# Altium integrated library National Semiconductor Interface.IntLib: 1433 symbols (part 38 of 51)
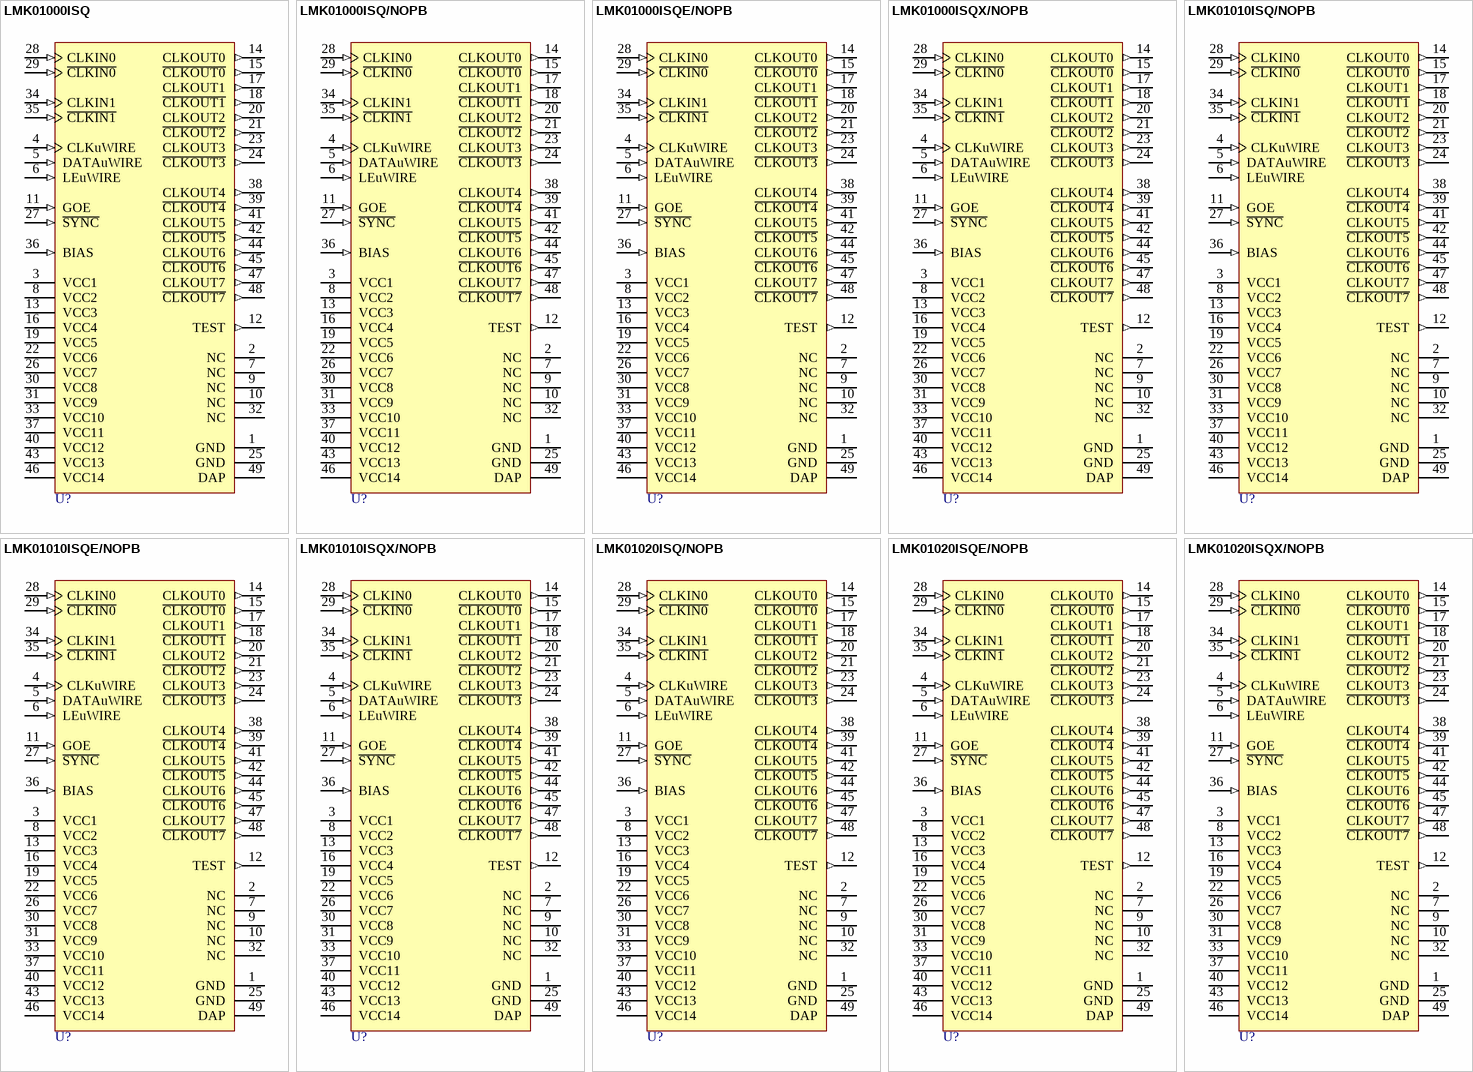
[diagram p161: symbols LMK01000ISQ to LMK01020ISQX/NOPB]

## LMK01020ISQE/NOPB
designator U?
1.6 GHz High Performance Clock Buffer, Divider, and Distributor, 48-pin LLP, Pb-Free; PartNumber: LMK01020ISQE/NOPB; Manufacturer: National Semiconductor; PackageTopMarking: NS*UZXYTTE#*K01020 I; PowerWise: N; CompType: Interface IC; High-Reliability: Y; DatasheetVersion: Jul-2009; PackageVersion: revB, May-2009; PackageReference: SQA48A; PackageDescription: LLP, Plastic, Quad, 7 x 7 x 0.8mm Body, 48 Lead, 0.5mm Pitch, No Pullback; RoHS: Y; PinCount: 48; Code_JEDEC: MO-220-WKKD-2; ComponentLink1Description: Manufacturer URL; ComponentLink1URL: http://www.national.com/; ComponentLink2Description: LMK01020 Datasheet; ComponentLink2URL: http://www.national.com/ds/LM/LMK01020.pdf; ComponentLink3Description: LMK01020 Web Page; ComponentLink3URL: http://www.national.com/pf/LM/LMK01020.html; ComponentLink4Description: SQA48A Package Page; ComponentLink4URL: http://www.national.com/packaging/folders/sqa48a.html
footprint SQA48A (QFN, 48-Leads, Body 7x7mm, Pitch 0.5mm, Thermal Pad 5.2x5.2mm, NSC Recommended)
pins: 1 GND (power), 2 NC, 3 VCC1 (power), 4 CLKuWIRE (in), 5 DATAuWIRE (in), 6 LEuWIRE (in), 7 NC, 8 VCC2 (power), 9 NC, 10 NC, 11 GOE (in), 12 TEST (out), 13 VCC3 (power), 14 CLKOUT0 (out), 15 ~{CLKOUT0} (out), 16 VCC4 (power), 17 CLKOUT1 (out), 18 ~{CLKOUT1} (out), 19 VCC5 (power), 20 CLKOUT2 (out), 21 ~{CLKOUT2} (out), 22 VCC6 (power), 23 CLKOUT3 (out), 24 ~{CLKOUT3} (out), 25 GND (power), 26 VCC7 (power), 27 ~{SYNC} (in), 28 CLKIN0 (in), 29 ~{CLKIN0} (in), 30 VCC8 (power), 31 VCC9 (power), 32 NC, 33 VCC10 (power), 34 CLKIN1 (in), 35 ~{CLKIN1} (in), 36 BIAS (in), 37 VCC11 (power), 38 CLKOUT4 (out), 39 ~{CLKOUT4} (out), 40 VCC12 (power), 41 CLKOUT5 (out), 42 ~{CLKOUT5} (out), 43 VCC13 (power), 44 CLKOUT6 (out), 45 ~{CLKOUT6} (out), 46 VCC14 (power), 47 CLKOUT7 (out), 48 ~{CLKOUT7} (out), 49 DAP (power)

## LMK01020ISQX/NOPB
designator U?
1.6 GHz High Performance Clock Buffer, Divider, and Distributor, 48-pin LLP, Pb-Free; PartNumber: LMK01020ISQX/NOPB; Manufacturer: National Semiconductor; PackageTopMarking: NS*UZXYTTE#*K01020 I; PowerWise: N; CompType: Interface IC; High-Reliability: Y; DatasheetVersion: Jul-2009; PackageVersion: revB, May-2009; PackageReference: SQA48A; PackageDescription: LLP, Plastic, Quad, 7 x 7 x 0.8mm Body, 48 Lead, 0.5mm Pitch, No Pullback; RoHS: Y; PinCount: 48; Code_JEDEC: MO-220-WKKD-2; ComponentLink1Description: Manufacturer URL; ComponentLink1URL: http://www.national.com/; ComponentLink2Description: LMK01020 Datasheet; ComponentLink2URL: http://www.national.com/ds/LM/LMK01020.pdf; ComponentLink3Description: LMK01020 Web Page; ComponentLink3URL: http://www.national.com/pf/LM/LMK01020.html; ComponentLink4Description: SQA48A Package Page; ComponentLink4URL: http://www.national.com/packaging/folders/sqa48a.html
footprint SQA48A (QFN, 48-Leads, Body 7x7mm, Pitch 0.5mm, Thermal Pad 5.2x5.2mm, NSC Recommended)
pins: 1 GND (power), 2 NC, 3 VCC1 (power), 4 CLKuWIRE (in), 5 DATAuWIRE (in), 6 LEuWIRE (in), 7 NC, 8 VCC2 (power), 9 NC, 10 NC, 11 GOE (in), 12 TEST (out), 13 VCC3 (power), 14 CLKOUT0 (out), 15 ~{CLKOUT0} (out), 16 VCC4 (power), 17 CLKOUT1 (out), 18 ~{CLKOUT1} (out), 19 VCC5 (power), 20 CLKOUT2 (out), 21 ~{CLKOUT2} (out), 22 VCC6 (power), 23 CLKOUT3 (out), 24 ~{CLKOUT3} (out), 25 GND (power), 26 VCC7 (power), 27 ~{SYNC} (in), 28 CLKIN0 (in), 29 ~{CLKIN0} (in), 30 VCC8 (power), 31 VCC9 (power), 32 NC, 33 VCC10 (power), 34 CLKIN1 (in), 35 ~{CLKIN1} (in), 36 BIAS (in), 37 VCC11 (power), 38 CLKOUT4 (out), 39 ~{CLKOUT4} (out), 40 VCC12 (power), 41 CLKOUT5 (out), 42 ~{CLKOUT5} (out), 43 VCC13 (power), 44 CLKOUT6 (out), 45 ~{CLKOUT6} (out), 46 VCC14 (power), 47 CLKOUT7 (out), 48 ~{CLKOUT7} (out), 49 DAP (power)

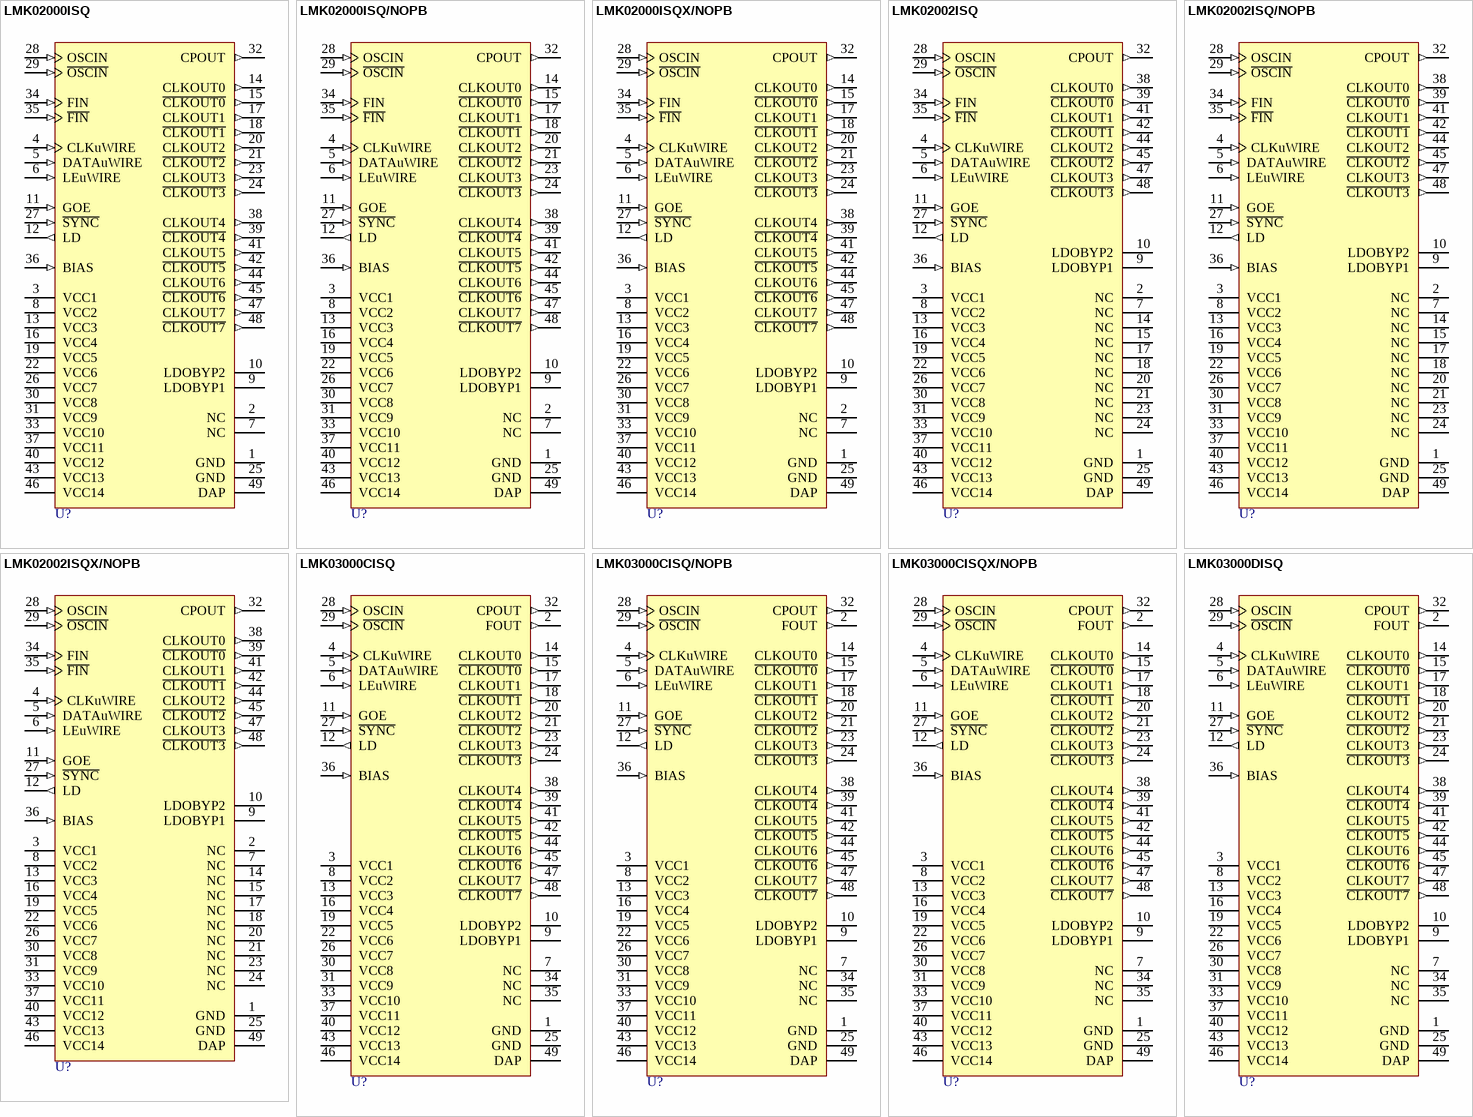
[diagram p93: symbols LMK02000ISQ to LMK03000DISQ]

## LMK02000ISQ
designator U?
Precision Clock Distributor with Integrated PLL, 48-pin LLP; PartNumber: LMK02000ISQ; Manufacturer: National Semiconductor; PackageTopMarking: NS*UZXYTT*K02000 I; PowerWise: Y; CompType: Interface IC; DatasheetVersion: Sep-2007; PackageVersion: revB, May-2009; PackageReference: SQA48A; PackageDescription: LLP, Plastic, Quad, 7 x 7 x 0.8mm Body, 48 Lead, 0.5mm Pitch, No Pullback; RoHS: Y; PinCount: 48; High-Reliability: Y; Code_JEDEC: MO-220-WKKD-2; ComponentLink1Description: Manufacturer URL; ComponentLink1URL: http://www.national.com/; ComponentLink2Description: LMK02000 Datasheet; ComponentLink2URL: http://www.national.com/ds/LM/LMK02000.pdf; ComponentLink3Description: LMK02000 Web Page; ComponentLink3URL: http://www.national.com/pf/LM/LMK02000.html; ComponentLink4Description: SQA48A Package Page; ComponentLink4URL: http://www.national.com/packaging/folders/sqa48a.html
footprint SQA48A (QFN, 48-Leads, Body 7x7mm, Pitch 0.5mm, Thermal Pad 5.2x5.2mm, NSC Recommended)
pins: 1 GND (power), 2 NC, 3 VCC1 (power), 4 CLKuWIRE (in), 5 DATAuWIRE (in), 6 LEuWIRE (in), 7 NC, 8 VCC2 (power), 9 LDOBYP1, 10 LDOBYP2, 11 GOE (in), 12 LD (out), 13 VCC3 (power), 14 CLKOUT0 (out), 15 ~{CLKOUT0} (out), 16 VCC4 (power), 17 CLKOUT1 (out), 18 ~{CLKOUT1} (out), 19 VCC5 (power), 20 CLKOUT2 (out), 21 ~{CLKOUT2} (out), 22 VCC6 (power), 23 CLKOUT3 (out), 24 ~{CLKOUT3} (out), 25 GND (power), 26 VCC7 (power), 27 ~{SYNC} (in), 28 OSCIN (in), 29 ~{OSCIN} (in), 30 VCC8 (power), 31 VCC9 (power), 32 CPOUT (out), 33 VCC10 (power), 34 FIN (in), 35 ~{FIN} (in), 36 BIAS (in), 37 VCC11 (power), 38 CLKOUT4 (out), 39 ~{CLKOUT4} (out), 40 VCC12 (power), 41 CLKOUT5 (out), 42 ~{CLKOUT5} (out), 43 VCC13 (power), 44 CLKOUT6 (out), 45 ~{CLKOUT6} (out), 46 VCC14 (power), 47 CLKOUT7 (out), 48 ~{CLKOUT7} (out), 49 DAP (power)

## LMK02000ISQ/NOPB
designator U?
Precision Clock Distributor with Integrated PLL, 48-pin LLP, Pb-Free; PartNumber: LMK02000ISQ/NOPB; Manufacturer: National Semiconductor; PackageTopMarking: NS*UZXYTTE#*K02000 I; PowerWise: Y; CompType: Interface IC; DatasheetVersion: Sep-2007; PackageVersion: revB, May-2009; PackageReference: SQA48A; PackageDescription: LLP, Plastic, Quad, 7 x 7 x 0.8mm Body, 48 Lead, 0.5mm Pitch, No Pullback; RoHS: Y; PinCount: 48; High-Reliability: Y; Code_JEDEC: MO-220-WKKD-2; ComponentLink1Description: Manufacturer URL; ComponentLink1URL: http://www.national.com/; ComponentLink2Description: LMK02000 Datasheet; ComponentLink2URL: http://www.national.com/ds/LM/LMK02000.pdf; ComponentLink3Description: LMK02000 Web Page; ComponentLink3URL: http://www.national.com/pf/LM/LMK02000.html; ComponentLink4Description: SQA48A Package Page; ComponentLink4URL: http://www.national.com/packaging/folders/sqa48a.html
footprint SQA48A (QFN, 48-Leads, Body 7x7mm, Pitch 0.5mm, Thermal Pad 5.2x5.2mm, NSC Recommended)
pins: 1 GND (power), 2 NC, 3 VCC1 (power), 4 CLKuWIRE (in), 5 DATAuWIRE (in), 6 LEuWIRE (in), 7 NC, 8 VCC2 (power), 9 LDOBYP1, 10 LDOBYP2, 11 GOE (in), 12 LD (out), 13 VCC3 (power), 14 CLKOUT0 (out), 15 ~{CLKOUT0} (out), 16 VCC4 (power), 17 CLKOUT1 (out), 18 ~{CLKOUT1} (out), 19 VCC5 (power), 20 CLKOUT2 (out), 21 ~{CLKOUT2} (out), 22 VCC6 (power), 23 CLKOUT3 (out), 24 ~{CLKOUT3} (out), 25 GND (power), 26 VCC7 (power), 27 ~{SYNC} (in), 28 OSCIN (in), 29 ~{OSCIN} (in), 30 VCC8 (power), 31 VCC9 (power), 32 CPOUT (out), 33 VCC10 (power), 34 FIN (in), 35 ~{FIN} (in), 36 BIAS (in), 37 VCC11 (power), 38 CLKOUT4 (out), 39 ~{CLKOUT4} (out), 40 VCC12 (power), 41 CLKOUT5 (out), 42 ~{CLKOUT5} (out), 43 VCC13 (power), 44 CLKOUT6 (out), 45 ~{CLKOUT6} (out), 46 VCC14 (power), 47 CLKOUT7 (out), 48 ~{CLKOUT7} (out), 49 DAP (power)

## LMK02000ISQX/NOPB
designator U?
Precision Clock Distributor with Integrated PLL, 48-pin LLP, Pb-Free; PartNumber: LMK02000ISQX/NOPB; Manufacturer: National Semiconductor; PackageTopMarking: NS*UZXYTTE#*K02000 I; PowerWise: Y; CompType: Interface IC; DatasheetVersion: Sep-2007; PackageVersion: revB, May-2009; PackageReference: SQA48A; PackageDescription: LLP, Plastic, Quad, 7 x 7 x 0.8mm Body, 48 Lead, 0.5mm Pitch, No Pullback; RoHS: Y; PinCount: 48; High-Reliability: Y; Code_JEDEC: MO-220-WKKD-2; ComponentLink1Description: Manufacturer URL; ComponentLink1URL: http://www.national.com/; ComponentLink2Description: LMK02000 Datasheet; ComponentLink2URL: http://www.national.com/ds/LM/LMK02000.pdf; ComponentLink3Description: LMK02000 Web Page; ComponentLink3URL: http://www.national.com/pf/LM/LMK02000.html; ComponentLink4Description: SQA48A Package Page; ComponentLink4URL: http://www.national.com/packaging/folders/sqa48a.html
footprint SQA48A (QFN, 48-Leads, Body 7x7mm, Pitch 0.5mm, Thermal Pad 5.2x5.2mm, NSC Recommended)
pins: 1 GND (power), 2 NC, 3 VCC1 (power), 4 CLKuWIRE (in), 5 DATAuWIRE (in), 6 LEuWIRE (in), 7 NC, 8 VCC2 (power), 9 LDOBYP1, 10 LDOBYP2, 11 GOE (in), 12 LD (out), 13 VCC3 (power), 14 CLKOUT0 (out), 15 ~{CLKOUT0} (out), 16 VCC4 (power), 17 CLKOUT1 (out), 18 ~{CLKOUT1} (out), 19 VCC5 (power), 20 CLKOUT2 (out), 21 ~{CLKOUT2} (out), 22 VCC6 (power), 23 CLKOUT3 (out), 24 ~{CLKOUT3} (out), 25 GND (power), 26 VCC7 (power), 27 ~{SYNC} (in), 28 OSCIN (in), 29 ~{OSCIN} (in), 30 VCC8 (power), 31 VCC9 (power), 32 CPOUT (out), 33 VCC10 (power), 34 FIN (in), 35 ~{FIN} (in), 36 BIAS (in), 37 VCC11 (power), 38 CLKOUT4 (out), 39 ~{CLKOUT4} (out), 40 VCC12 (power), 41 CLKOUT5 (out), 42 ~{CLKOUT5} (out), 43 VCC13 (power), 44 CLKOUT6 (out), 45 ~{CLKOUT6} (out), 46 VCC14 (power), 47 CLKOUT7 (out), 48 ~{CLKOUT7} (out), 49 DAP (power)

## LMK02002ISQ
designator U?
Precision Clock Distributor with Integrated PLL, 48-pin LLP; PartNumber: LMK02002ISQ; Manufacturer: National Semiconductor; PackageTopMarking: NS*UZXYTT*K02002 I; PowerWise: Y; CompType: Interface IC; DatasheetVersion: Aug-2007; PackageVersion: revB, May-2009; PackageReference: SQA48A; PackageDescription: LLP, Plastic, Quad, 7 x 7 x 0.8mm Body, 48 Lead, 0.5mm Pitch, No Pullback; RoHS: Y; PinCount: 48; High-Reliability: Y; Code_JEDEC: MO-220-WKKD-2; ComponentLink1Description: Manufacturer URL; ComponentLink1URL: http://www.national.com/; ComponentLink2Description: LMK02002 Datasheet; ComponentLink2URL: http://www.national.com/ds/LM/LMK02002.pdf; ComponentLink3Description: LMK02002 Web Page; ComponentLink3URL: http://www.national.com/pf/LM/LMK02002.html; ComponentLink4Description: SQA48A Package Page; ComponentLink4URL: http://www.national.com/packaging/folders/sqa48a.html
footprint SQA48A (QFN, 48-Leads, Body 7x7mm, Pitch 0.5mm, Thermal Pad 5.2x5.2mm, NSC Recommended)
pins: 1 GND (power), 2 NC, 3 VCC1 (power), 4 CLKuWIRE (in), 5 DATAuWIRE (in), 6 LEuWIRE (in), 7 NC, 8 VCC2 (power), 9 LDOBYP1, 10 LDOBYP2, 11 GOE (in), 12 LD (out), 13 VCC3 (power), 14 NC, 15 NC, 16 VCC4 (power), 17 NC, 18 NC, 19 VCC5 (power), 20 NC, 21 NC, 22 VCC6 (power), 23 NC, 24 NC, 25 GND (power), 26 VCC7 (power), 27 ~{SYNC} (in), 28 OSCIN (in), 29 ~{OSCIN} (in), 30 VCC8 (power), 31 VCC9 (power), 32 CPOUT (out), 33 VCC10 (power), 34 FIN (in), 35 ~{FIN} (in), 36 BIAS (in), 37 VCC11 (power), 38 CLKOUT0 (out), 39 ~{CLKOUT0} (out), 40 VCC12 (power), 41 CLKOUT1 (out), 42 ~{CLKOUT1} (out), 43 VCC13 (power), 44 CLKOUT2 (out), 45 ~{CLKOUT2} (out), 46 VCC14 (power), 47 CLKOUT3 (out), 48 ~{CLKOUT3} (out), 49 DAP (power)

## LMK02002ISQ/NOPB
designator U?
Precision Clock Distributor with Integrated PLL, 48-pin LLP, Pb-Free; PartNumber: LMK02002ISQ/NOPB; Manufacturer: National Semiconductor; PackageTopMarking: NS*UZXYTTE#*K02002 I; PowerWise: Y; CompType: Interface IC; DatasheetVersion: Aug-2007; PackageVersion: revB, May-2009; PackageReference: SQA48A; PackageDescription: LLP, Plastic, Quad, 7 x 7 x 0.8mm Body, 48 Lead, 0.5mm Pitch, No Pullback; RoHS: Y; PinCount: 48; High-Reliability: Y; Code_JEDEC: MO-220-WKKD-2; ComponentLink1Description: Manufacturer URL; ComponentLink1URL: http://www.national.com/; ComponentLink2Description: LMK02002 Datasheet; ComponentLink2URL: http://www.national.com/ds/LM/LMK02002.pdf; ComponentLink3Description: LMK02002 Web Page; ComponentLink3URL: http://www.national.com/pf/LM/LMK02002.html; ComponentLink4Description: SQA48A Package Page; ComponentLink4URL: http://www.national.com/packaging/folders/sqa48a.html
footprint SQA48A (QFN, 48-Leads, Body 7x7mm, Pitch 0.5mm, Thermal Pad 5.2x5.2mm, NSC Recommended)
pins: 1 GND (power), 2 NC, 3 VCC1 (power), 4 CLKuWIRE (in), 5 DATAuWIRE (in), 6 LEuWIRE (in), 7 NC, 8 VCC2 (power), 9 LDOBYP1, 10 LDOBYP2, 11 GOE (in), 12 LD (out), 13 VCC3 (power), 14 NC, 15 NC, 16 VCC4 (power), 17 NC, 18 NC, 19 VCC5 (power), 20 NC, 21 NC, 22 VCC6 (power), 23 NC, 24 NC, 25 GND (power), 26 VCC7 (power), 27 ~{SYNC} (in), 28 OSCIN (in), 29 ~{OSCIN} (in), 30 VCC8 (power), 31 VCC9 (power), 32 CPOUT (out), 33 VCC10 (power), 34 FIN (in), 35 ~{FIN} (in), 36 BIAS (in), 37 VCC11 (power), 38 CLKOUT0 (out), 39 ~{CLKOUT0} (out), 40 VCC12 (power), 41 CLKOUT1 (out), 42 ~{CLKOUT1} (out), 43 VCC13 (power), 44 CLKOUT2 (out), 45 ~{CLKOUT2} (out), 46 VCC14 (power), 47 CLKOUT3 (out), 48 ~{CLKOUT3} (out), 49 DAP (power)

## LMK02002ISQX/NOPB
designator U?
Precision Clock Distributor with Integrated PLL, 48-pin LLP, Pb-Free; PartNumber: LMK02002ISQX/NOPB; Manufacturer: National Semiconductor; PackageTopMarking: NS*UZXYTTE#*K02002 I; PowerWise: Y; CompType: Interface IC; DatasheetVersion: Aug-2007; PackageVersion: revB, May-2009; PackageReference: SQA48A; PackageDescription: LLP, Plastic, Quad, 7 x 7 x 0.8mm Body, 48 Lead, 0.5mm Pitch, No Pullback; RoHS: Y; PinCount: 48; High-Reliability: Y; Code_JEDEC: MO-220-WKKD-2; ComponentLink1Description: Manufacturer URL; ComponentLink1URL: http://www.national.com/; ComponentLink2Description: LMK02002 Datasheet; ComponentLink2URL: http://www.national.com/ds/LM/LMK02002.pdf; ComponentLink3Description: LMK02002 Web Page; ComponentLink3URL: http://www.national.com/pf/LM/LMK02002.html; ComponentLink4Description: SQA48A Package Page; ComponentLink4URL: http://www.national.com/packaging/folders/sqa48a.html
footprint SQA48A (QFN, 48-Leads, Body 7x7mm, Pitch 0.5mm, Thermal Pad 5.2x5.2mm, NSC Recommended)
pins: 1 GND (power), 2 NC, 3 VCC1 (power), 4 CLKuWIRE (in), 5 DATAuWIRE (in), 6 LEuWIRE (in), 7 NC, 8 VCC2 (power), 9 LDOBYP1, 10 LDOBYP2, 11 GOE (in), 12 LD (out), 13 VCC3 (power), 14 NC, 15 NC, 16 VCC4 (power), 17 NC, 18 NC, 19 VCC5 (power), 20 NC, 21 NC, 22 VCC6 (power), 23 NC, 24 NC, 25 GND (power), 26 VCC7 (power), 27 ~{SYNC} (in), 28 OSCIN (in), 29 ~{OSCIN} (in), 30 VCC8 (power), 31 VCC9 (power), 32 CPOUT (out), 33 VCC10 (power), 34 FIN (in), 35 ~{FIN} (in), 36 BIAS (in), 37 VCC11 (power), 38 CLKOUT0 (out), 39 ~{CLKOUT0} (out), 40 VCC12 (power), 41 CLKOUT1 (out), 42 ~{CLKOUT1} (out), 43 VCC13 (power), 44 CLKOUT2 (out), 45 ~{CLKOUT2} (out), 46 VCC14 (power), 47 CLKOUT3 (out), 48 ~{CLKOUT3} (out), 49 DAP (power)

## LMK03000CISQ
designator U?
Precision Clock Conditioner with Integrated VCO, 48-pin LLP; PartNumber: LMK03000CISQ; Manufacturer: National Semiconductor; PackageTopMarking: NS*UZXYTT*K03000CI; PowerWise: Y; CompType: Interface IC; DatasheetVersion: Jul-2009; PackageVersion: revB, May-2009; PackageReference: SQA48A; PackageDescription: LLP, Plastic, Quad, 7 x 7 x 0.8mm Body, 48 Lead, 0.5mm Pitch, No Pullback; RoHS: Y; PinCount: 48; High-Reliability: Y; Code_JEDEC: MO-220-WKKD-2; ComponentLink1Description: Manufacturer URL; ComponentLink1URL: http://www.national.com/; ComponentLink2Description: LMK03000C Datasheet; ComponentLink2URL: http://www.national.com/ds/LM/LMK03000.pdf; ComponentLink3Description: LMK03000C Web Page; ComponentLink3URL: http://www.national.com/pf/LM/LMK03000C.html; ComponentLink4Description: SQA48A Package Page; ComponentLink4URL: http://www.national.com/packaging/folders/sqa48a.html
footprint SQA48A (QFN, 48-Leads, Body 7x7mm, Pitch 0.5mm, Thermal Pad 5.2x5.2mm, NSC Recommended)
pins: 1 GND (power), 2 FOUT (out), 3 VCC1 (power), 4 CLKuWIRE (in), 5 DATAuWIRE (in), 6 LEuWIRE (in), 7 NC, 8 VCC2 (power), 9 LDOBYP1, 10 LDOBYP2, 11 GOE (in), 12 LD (out), 13 VCC3 (power), 14 CLKOUT0 (out), 15 ~{CLKOUT0} (out), 16 VCC4 (power), 17 CLKOUT1 (out), 18 ~{CLKOUT1} (out), 19 VCC5 (power), 20 CLKOUT2 (out), 21 ~{CLKOUT2} (out), 22 VCC6 (power), 23 CLKOUT3 (out), 24 ~{CLKOUT3} (out), 25 GND (power), 26 VCC7 (power), 27 ~{SYNC} (in), 28 OSCIN (in), 29 ~{OSCIN} (in), 30 VCC8 (power), 31 VCC9 (power), 32 CPOUT (out), 33 VCC10 (power), 34 NC, 35 NC, 36 BIAS (in), 37 VCC11 (power), 38 CLKOUT4 (out), 39 ~{CLKOUT4} (out), 40 VCC12 (power), 41 CLKOUT5 (out), 42 ~{CLKOUT5} (out), 43 VCC13 (power), 44 CLKOUT6 (out), 45 ~{CLKOUT6} (out), 46 VCC14 (power), 47 CLKOUT7 (out), 48 ~{CLKOUT7} (out), 49 DAP (power)

## LMK03000CISQ/NOPB
designator U?
Precision Clock Conditioner with Integrated VCO, 48-pin LLP, Pb-Free; PartNumber: LMK03000CISQ/NOPB; Manufacturer: National Semiconductor; PackageTopMarking: NS*UZXYTTE#*K03000CI; PowerWise: Y; CompType: Interface IC; DatasheetVersion: Jul-2009; PackageVersion: revB, May-2009; PackageReference: SQA48A; PackageDescription: LLP, Plastic, Quad, 7 x 7 x 0.8mm Body, 48 Lead, 0.5mm Pitch, No Pullback; RoHS: Y; PinCount: 48; High-Reliability: Y; Code_JEDEC: MO-220-WKKD-2; ComponentLink1Description: Manufacturer URL; ComponentLink1URL: http://www.national.com/; ComponentLink2Description: LMK03000 Datasheet; ComponentLink2URL: http://www.national.com/ds/LM/LMK03000.pdf; ComponentLink3Description: LMK03000 Web Page; ComponentLink3URL: http://www.national.com/pf/LM/LMK03000.html; ComponentLink4Description: SQA48A Package Page; ComponentLink4URL: http://www.national.com/packaging/folders/sqa48a.html
footprint SQA48A (QFN, 48-Leads, Body 7x7mm, Pitch 0.5mm, Thermal Pad 5.2x5.2mm, NSC Recommended)
pins: 1 GND (power), 2 FOUT (out), 3 VCC1 (power), 4 CLKuWIRE (in), 5 DATAuWIRE (in), 6 LEuWIRE (in), 7 NC, 8 VCC2 (power), 9 LDOBYP1, 10 LDOBYP2, 11 GOE (in), 12 LD (out), 13 VCC3 (power), 14 CLKOUT0 (out), 15 ~{CLKOUT0} (out), 16 VCC4 (power), 17 CLKOUT1 (out), 18 ~{CLKOUT1} (out), 19 VCC5 (power), 20 CLKOUT2 (out), 21 ~{CLKOUT2} (out), 22 VCC6 (power), 23 CLKOUT3 (out), 24 ~{CLKOUT3} (out), 25 GND (power), 26 VCC7 (power), 27 ~{SYNC} (in), 28 OSCIN (in), 29 ~{OSCIN} (in), 30 VCC8 (power), 31 VCC9 (power), 32 CPOUT (out), 33 VCC10 (power), 34 NC, 35 NC, 36 BIAS (in), 37 VCC11 (power), 38 CLKOUT4 (out), 39 ~{CLKOUT4} (out), 40 VCC12 (power), 41 CLKOUT5 (out), 42 ~{CLKOUT5} (out), 43 VCC13 (power), 44 CLKOUT6 (out), 45 ~{CLKOUT6} (out), 46 VCC14 (power), 47 CLKOUT7 (out), 48 ~{CLKOUT7} (out), 49 DAP (power)

## LMK03000CISQX/NOPB
designator U?
Precision Clock Conditioner with Integrated VCO, 48-pin LLP, Pb-Free; PartNumber: LMK03000CISQX/NOPB; Manufacturer: National Semiconductor; PackageTopMarking: NS*UZXYTTE#*K03000CI; PowerWise: Y; CompType: Interface IC; DatasheetVersion: Jul-2009; PackageVersion: revB, May-2009; PackageReference: SQA48A; PackageDescription: LLP, Plastic, Quad, 7 x 7 x 0.8mm Body, 48 Lead, 0.5mm Pitch, No Pullback; RoHS: Y; PinCount: 48; High-Reliability: Y; Code_JEDEC: MO-220-WKKD-2; ComponentLink1Description: Manufacturer URL; ComponentLink1URL: http://www.national.com/; ComponentLink2Description: LMK03000 Datasheet; ComponentLink2URL: http://www.national.com/ds/LM/LMK03000.pdf; ComponentLink3Description: LMK03000 Web Page; ComponentLink3URL: http://www.national.com/pf/LM/LMK03000.html; ComponentLink4Description: SQA48A Package Page; ComponentLink4URL: http://www.national.com/packaging/folders/sqa48a.html
footprint SQA48A (QFN, 48-Leads, Body 7x7mm, Pitch 0.5mm, Thermal Pad 5.2x5.2mm, NSC Recommended)
pins: 1 GND (power), 2 FOUT (out), 3 VCC1 (power), 4 CLKuWIRE (in), 5 DATAuWIRE (in), 6 LEuWIRE (in), 7 NC, 8 VCC2 (power), 9 LDOBYP1, 10 LDOBYP2, 11 GOE (in), 12 LD (out), 13 VCC3 (power), 14 CLKOUT0 (out), 15 ~{CLKOUT0} (out), 16 VCC4 (power), 17 CLKOUT1 (out), 18 ~{CLKOUT1} (out), 19 VCC5 (power), 20 CLKOUT2 (out), 21 ~{CLKOUT2} (out), 22 VCC6 (power), 23 CLKOUT3 (out), 24 ~{CLKOUT3} (out), 25 GND (power), 26 VCC7 (power), 27 ~{SYNC} (in), 28 OSCIN (in), 29 ~{OSCIN} (in), 30 VCC8 (power), 31 VCC9 (power), 32 CPOUT (out), 33 VCC10 (power), 34 NC, 35 NC, 36 BIAS (in), 37 VCC11 (power), 38 CLKOUT4 (out), 39 ~{CLKOUT4} (out), 40 VCC12 (power), 41 CLKOUT5 (out), 42 ~{CLKOUT5} (out), 43 VCC13 (power), 44 CLKOUT6 (out), 45 ~{CLKOUT6} (out), 46 VCC14 (power), 47 CLKOUT7 (out), 48 ~{CLKOUT7} (out), 49 DAP (power)

## LMK03000DISQ
designator U?
Precision Clock Conditioner with Integrated VCO, 48-pin LLP; PartNumber: LMK03000DISQ; Manufacturer: National Semiconductor; PackageTopMarking: NS*UZXYTT*K03000DI; PowerWise: N; CompType: Interface IC; High-Reliability: Y; DatasheetVersion: Jul-2009; PackageVersion: revB, May-2009; PackageReference: SQA48A; PackageDescription: LLP, Plastic, Quad, 7 x 7 x 0.8mm Body, 48 Lead, 0.5mm Pitch, No Pullback; RoHS: Y; PinCount: 48; Code_JEDEC: MO-220-WKKD-2; ComponentLink1Description: Manufacturer URL; ComponentLink1URL: http://www.national.com/; ComponentLink2Description: LMK03000 Datasheet; ComponentLink2URL: http://www.national.com/ds/LM/LMK03000.pdf; ComponentLink3Description: LMK03000 Web Page; ComponentLink3URL: http://www.national.com/pf/LM/LMK03000.html; ComponentLink4Description: SQA48A Package Page; ComponentLink4URL: http://www.national.com/packaging/folders/sqa48a.html
footprint SQA48A (QFN, 48-Leads, Body 7x7mm, Pitch 0.5mm, Thermal Pad 5.2x5.2mm, NSC Recommended)
pins: 1 GND (power), 2 FOUT (out), 3 VCC1 (power), 4 CLKuWIRE (in), 5 DATAuWIRE (in), 6 LEuWIRE (in), 7 NC, 8 VCC2 (power), 9 LDOBYP1, 10 LDOBYP2, 11 GOE (in), 12 LD (out), 13 VCC3 (power), 14 CLKOUT0 (out), 15 ~{CLKOUT0} (out), 16 VCC4 (power), 17 CLKOUT1 (out), 18 ~{CLKOUT1} (out), 19 VCC5 (power), 20 CLKOUT2 (out), 21 ~{CLKOUT2} (out), 22 VCC6 (power), 23 CLKOUT3 (out), 24 ~{CLKOUT3} (out), 25 GND (power), 26 VCC7 (power), 27 ~{SYNC} (in), 28 OSCIN (in), 29 ~{OSCIN} (in), 30 VCC8 (power), 31 VCC9 (power), 32 CPOUT (out), 33 VCC10 (power), 34 NC, 35 NC, 36 BIAS (in), 37 VCC11 (power), 38 CLKOUT4 (out), 39 ~{CLKOUT4} (out), 40 VCC12 (power), 41 CLKOUT5 (out), 42 ~{CLKOUT5} (out), 43 VCC13 (power), 44 CLKOUT6 (out), 45 ~{CLKOUT6} (out), 46 VCC14 (power), 47 CLKOUT7 (out), 48 ~{CLKOUT7} (out), 49 DAP (power)

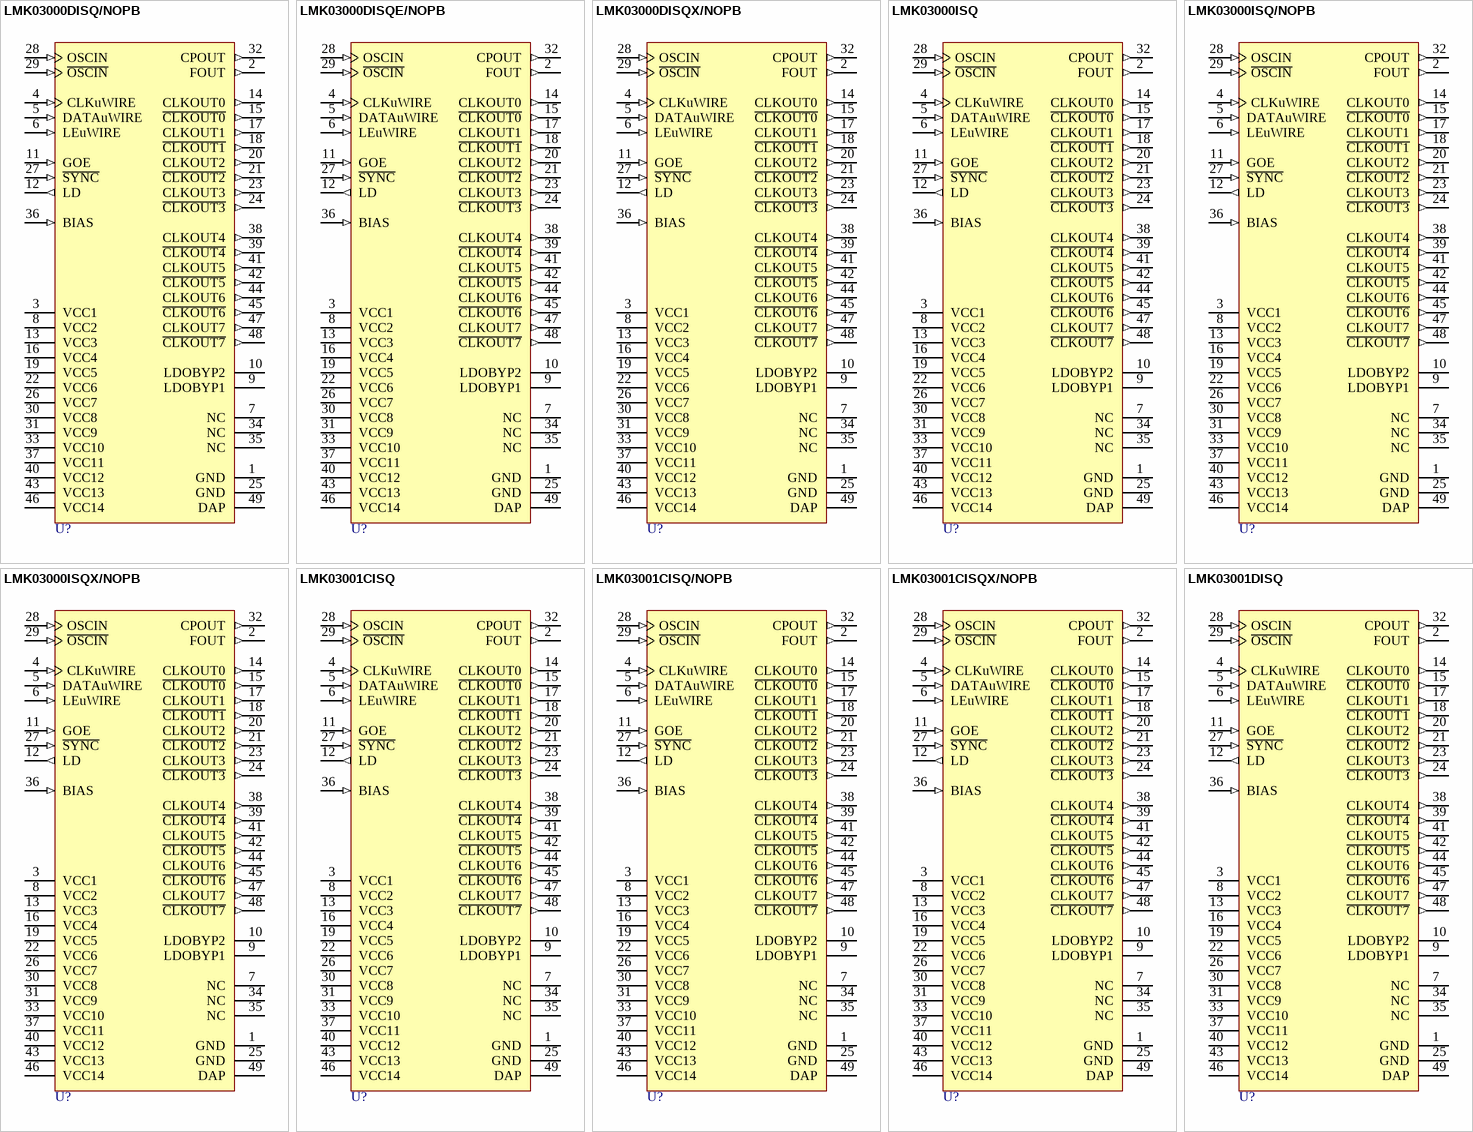
[diagram p94: symbols LMK03000DISQ/NOPB to LMK03001DISQ]

## LMK03000DISQ/NOPB
designator U?
Precision Clock Conditioner with Integrated VCO, 48-pin LLP, Pb-Free; PartNumber: LMK03000DISQ/NOPB; Manufacturer: National Semiconductor; PackageTopMarking: NS*UZXYTTE#*K03000DI; PowerWise: N; CompType: Interface IC; High-Reliability: Y; DatasheetVersion: Jul-2009; PackageVersion: revB, May-2009; PackageReference: SQA48A; PackageDescription: LLP, Plastic, Quad, 7 x 7 x 0.8mm Body, 48 Lead, 0.5mm Pitch, No Pullback; RoHS: Y; PinCount: 48; Code_JEDEC: MO-220-WKKD-2; ComponentLink1Description: Manufacturer URL; ComponentLink1URL: http://www.national.com/; ComponentLink2Description: LMK03000 Datasheet; ComponentLink2URL: http://www.national.com/ds/LM/LMK03000.pdf; ComponentLink3Description: LMK03000 Web Page; ComponentLink3URL: http://www.national.com/pf/LM/LMK03000.html; ComponentLink4Description: SQA48A Package Page; ComponentLink4URL: http://www.national.com/packaging/folders/sqa48a.html
footprint SQA48A (QFN, 48-Leads, Body 7x7mm, Pitch 0.5mm, Thermal Pad 5.2x5.2mm, NSC Recommended)
pins: 1 GND (power), 2 FOUT (out), 3 VCC1 (power), 4 CLKuWIRE (in), 5 DATAuWIRE (in), 6 LEuWIRE (in), 7 NC, 8 VCC2 (power), 9 LDOBYP1, 10 LDOBYP2, 11 GOE (in), 12 LD (out), 13 VCC3 (power), 14 CLKOUT0 (out), 15 ~{CLKOUT0} (out), 16 VCC4 (power), 17 CLKOUT1 (out), 18 ~{CLKOUT1} (out), 19 VCC5 (power), 20 CLKOUT2 (out), 21 ~{CLKOUT2} (out), 22 VCC6 (power), 23 CLKOUT3 (out), 24 ~{CLKOUT3} (out), 25 GND (power), 26 VCC7 (power), 27 ~{SYNC} (in), 28 OSCIN (in), 29 ~{OSCIN} (in), 30 VCC8 (power), 31 VCC9 (power), 32 CPOUT (out), 33 VCC10 (power), 34 NC, 35 NC, 36 BIAS (in), 37 VCC11 (power), 38 CLKOUT4 (out), 39 ~{CLKOUT4} (out), 40 VCC12 (power), 41 CLKOUT5 (out), 42 ~{CLKOUT5} (out), 43 VCC13 (power), 44 CLKOUT6 (out), 45 ~{CLKOUT6} (out), 46 VCC14 (power), 47 CLKOUT7 (out), 48 ~{CLKOUT7} (out), 49 DAP (power)

## LMK03000DISQE/NOPB
designator U?
Precision Clock Conditioner with Integrated VCO, 48-pin LLP, Pb-Free; PartNumber: LMK03000DISQE/NOPB; Manufacturer: National Semiconductor; PackageTopMarking: NS*UZXYTTE#*K03000DI; PowerWise: N; CompType: Interface IC; High-Reliability: Y; DatasheetVersion: Jul-2009; PackageVersion: revB, May-2009; PackageReference: SQA48A; PackageDescription: LLP, Plastic, Quad, 7 x 7 x 0.8mm Body, 48 Lead, 0.5mm Pitch, No Pullback; RoHS: Y; PinCount: 48; Code_JEDEC: MO-220-WKKD-2; ComponentLink1Description: Manufacturer URL; ComponentLink1URL: http://www.national.com/; ComponentLink2Description: LMK03000 Datasheet; ComponentLink2URL: http://www.national.com/ds/LM/LMK03000.pdf; ComponentLink3Description: LMK03000 Web Page; ComponentLink3URL: http://www.national.com/pf/LM/LMK03000.html; ComponentLink4Description: SQA48A Package Page; ComponentLink4URL: http://www.national.com/packaging/folders/sqa48a.html
footprint SQA48A (QFN, 48-Leads, Body 7x7mm, Pitch 0.5mm, Thermal Pad 5.2x5.2mm, NSC Recommended)
pins: 1 GND (power), 2 FOUT (out), 3 VCC1 (power), 4 CLKuWIRE (in), 5 DATAuWIRE (in), 6 LEuWIRE (in), 7 NC, 8 VCC2 (power), 9 LDOBYP1, 10 LDOBYP2, 11 GOE (in), 12 LD (out), 13 VCC3 (power), 14 CLKOUT0 (out), 15 ~{CLKOUT0} (out), 16 VCC4 (power), 17 CLKOUT1 (out), 18 ~{CLKOUT1} (out), 19 VCC5 (power), 20 CLKOUT2 (out), 21 ~{CLKOUT2} (out), 22 VCC6 (power), 23 CLKOUT3 (out), 24 ~{CLKOUT3} (out), 25 GND (power), 26 VCC7 (power), 27 ~{SYNC} (in), 28 OSCIN (in), 29 ~{OSCIN} (in), 30 VCC8 (power), 31 VCC9 (power), 32 CPOUT (out), 33 VCC10 (power), 34 NC, 35 NC, 36 BIAS (in), 37 VCC11 (power), 38 CLKOUT4 (out), 39 ~{CLKOUT4} (out), 40 VCC12 (power), 41 CLKOUT5 (out), 42 ~{CLKOUT5} (out), 43 VCC13 (power), 44 CLKOUT6 (out), 45 ~{CLKOUT6} (out), 46 VCC14 (power), 47 CLKOUT7 (out), 48 ~{CLKOUT7} (out), 49 DAP (power)

## LMK03000DISQX/NOPB
designator U?
Precision Clock Conditioner with Integrated VCO, 48-pin LLP, Pb-Free; PartNumber: LMK03000DISQX/NOPB; Manufacturer: National Semiconductor; PackageTopMarking: NS*UZXYTTE#*K03000DI; PowerWise: N; CompType: Interface IC; High-Reliability: Y; DatasheetVersion: Jul-2009; PackageVersion: revB, May-2009; PackageReference: SQA48A; PackageDescription: LLP, Plastic, Quad, 7 x 7 x 0.8mm Body, 48 Lead, 0.5mm Pitch, No Pullback; RoHS: Y; PinCount: 48; Code_JEDEC: MO-220-WKKD-2; ComponentLink1Description: Manufacturer URL; ComponentLink1URL: http://www.national.com/; ComponentLink2Description: LMK03000 Datasheet; ComponentLink2URL: http://www.national.com/ds/LM/LMK03000.pdf; ComponentLink3Description: LMK03000 Web Page; ComponentLink3URL: http://www.national.com/pf/LM/LMK03000.html; ComponentLink4Description: SQA48A Package Page; ComponentLink4URL: http://www.national.com/packaging/folders/sqa48a.html
footprint SQA48A (QFN, 48-Leads, Body 7x7mm, Pitch 0.5mm, Thermal Pad 5.2x5.2mm, NSC Recommended)
pins: 1 GND (power), 2 FOUT (out), 3 VCC1 (power), 4 CLKuWIRE (in), 5 DATAuWIRE (in), 6 LEuWIRE (in), 7 NC, 8 VCC2 (power), 9 LDOBYP1, 10 LDOBYP2, 11 GOE (in), 12 LD (out), 13 VCC3 (power), 14 CLKOUT0 (out), 15 ~{CLKOUT0} (out), 16 VCC4 (power), 17 CLKOUT1 (out), 18 ~{CLKOUT1} (out), 19 VCC5 (power), 20 CLKOUT2 (out), 21 ~{CLKOUT2} (out), 22 VCC6 (power), 23 CLKOUT3 (out), 24 ~{CLKOUT3} (out), 25 GND (power), 26 VCC7 (power), 27 ~{SYNC} (in), 28 OSCIN (in), 29 ~{OSCIN} (in), 30 VCC8 (power), 31 VCC9 (power), 32 CPOUT (out), 33 VCC10 (power), 34 NC, 35 NC, 36 BIAS (in), 37 VCC11 (power), 38 CLKOUT4 (out), 39 ~{CLKOUT4} (out), 40 VCC12 (power), 41 CLKOUT5 (out), 42 ~{CLKOUT5} (out), 43 VCC13 (power), 44 CLKOUT6 (out), 45 ~{CLKOUT6} (out), 46 VCC14 (power), 47 CLKOUT7 (out), 48 ~{CLKOUT7} (out), 49 DAP (power)

## LMK03000ISQ
designator U?
Precision Clock Conditioner with Integrated VCO, 48-pin LLP; PartNumber: LMK03000ISQ; Manufacturer: National Semiconductor; PackageTopMarking: NS*UZXYTT*K03000 I; PowerWise: Y; CompType: Interface IC; DatasheetVersion: Jul-2009; PackageVersion: revB, May-2009; PackageReference: SQA48A; PackageDescription: LLP, Plastic, Quad, 7 x 7 x 0.8mm Body, 48 Lead, 0.5mm Pitch, No Pullback; RoHS: Y; PinCount: 48; High-Reliability: Y; Code_JEDEC: MO-220-WKKD-2; ComponentLink1Description: Manufacturer URL; ComponentLink1URL: http://www.national.com/; ComponentLink2Description: LMK03000 Datasheet; ComponentLink2URL: http://www.national.com/ds/LM/LMK03000.pdf; ComponentLink3Description: LMK03000 Web Page; ComponentLink3URL: http://www.national.com/pf/LM/LMK03000.html; ComponentLink4Description: SQA48A Package Page; ComponentLink4URL: http://www.national.com/packaging/folders/sqa48a.html
footprint SQA48A (QFN, 48-Leads, Body 7x7mm, Pitch 0.5mm, Thermal Pad 5.2x5.2mm, NSC Recommended)
pins: 1 GND (power), 2 FOUT (out), 3 VCC1 (power), 4 CLKuWIRE (in), 5 DATAuWIRE (in), 6 LEuWIRE (in), 7 NC, 8 VCC2 (power), 9 LDOBYP1, 10 LDOBYP2, 11 GOE (in), 12 LD (out), 13 VCC3 (power), 14 CLKOUT0 (out), 15 ~{CLKOUT0} (out), 16 VCC4 (power), 17 CLKOUT1 (out), 18 ~{CLKOUT1} (out), 19 VCC5 (power), 20 CLKOUT2 (out), 21 ~{CLKOUT2} (out), 22 VCC6 (power), 23 CLKOUT3 (out), 24 ~{CLKOUT3} (out), 25 GND (power), 26 VCC7 (power), 27 ~{SYNC} (in), 28 OSCIN (in), 29 ~{OSCIN} (in), 30 VCC8 (power), 31 VCC9 (power), 32 CPOUT (out), 33 VCC10 (power), 34 NC, 35 NC, 36 BIAS (in), 37 VCC11 (power), 38 CLKOUT4 (out), 39 ~{CLKOUT4} (out), 40 VCC12 (power), 41 CLKOUT5 (out), 42 ~{CLKOUT5} (out), 43 VCC13 (power), 44 CLKOUT6 (out), 45 ~{CLKOUT6} (out), 46 VCC14 (power), 47 CLKOUT7 (out), 48 ~{CLKOUT7} (out), 49 DAP (power)

## LMK03000ISQ/NOPB
designator U?
Precision Clock Conditioner with Integrated VCO, 48-pin LLP, Pb-Free; PartNumber: LMK03000ISQ/NOPB; Manufacturer: National Semiconductor; PackageTopMarking: NS*UZXYTTE#*K03000 I; PowerWise: Y; CompType: Interface IC; DatasheetVersion: Jul-2009; PackageVersion: revB, May-2009; PackageReference: SQA48A; PackageDescription: LLP, Plastic, Quad, 7 x 7 x 0.8mm Body, 48 Lead, 0.5mm Pitch, No Pullback; RoHS: Y; PinCount: 48; High-Reliability: Y; Code_JEDEC: MO-220-WKKD-2; ComponentLink1Description: Manufacturer URL; ComponentLink1URL: http://www.national.com/; ComponentLink2Description: LMK03000 Datasheet; ComponentLink2URL: http://www.national.com/ds/LM/LMK03000.pdf; ComponentLink3Description: LMK03000 Web Page; ComponentLink3URL: http://www.national.com/pf/LM/LMK03000.html; ComponentLink4Description: SQA48A Package Page; ComponentLink4URL: http://www.national.com/packaging/folders/sqa48a.html
footprint SQA48A (QFN, 48-Leads, Body 7x7mm, Pitch 0.5mm, Thermal Pad 5.2x5.2mm, NSC Recommended)
pins: 1 GND (power), 2 FOUT (out), 3 VCC1 (power), 4 CLKuWIRE (in), 5 DATAuWIRE (in), 6 LEuWIRE (in), 7 NC, 8 VCC2 (power), 9 LDOBYP1, 10 LDOBYP2, 11 GOE (in), 12 LD (out), 13 VCC3 (power), 14 CLKOUT0 (out), 15 ~{CLKOUT0} (out), 16 VCC4 (power), 17 CLKOUT1 (out), 18 ~{CLKOUT1} (out), 19 VCC5 (power), 20 CLKOUT2 (out), 21 ~{CLKOUT2} (out), 22 VCC6 (power), 23 CLKOUT3 (out), 24 ~{CLKOUT3} (out), 25 GND (power), 26 VCC7 (power), 27 ~{SYNC} (in), 28 OSCIN (in), 29 ~{OSCIN} (in), 30 VCC8 (power), 31 VCC9 (power), 32 CPOUT (out), 33 VCC10 (power), 34 NC, 35 NC, 36 BIAS (in), 37 VCC11 (power), 38 CLKOUT4 (out), 39 ~{CLKOUT4} (out), 40 VCC12 (power), 41 CLKOUT5 (out), 42 ~{CLKOUT5} (out), 43 VCC13 (power), 44 CLKOUT6 (out), 45 ~{CLKOUT6} (out), 46 VCC14 (power), 47 CLKOUT7 (out), 48 ~{CLKOUT7} (out), 49 DAP (power)

## LMK03000ISQX/NOPB
designator U?
Precision Clock Conditioner with Integrated VCO, 48-pin LLP, Pb-Free; PartNumber: LMK03000ISQX/NOPB; Manufacturer: National Semiconductor; PackageTopMarking: NS*UZXYTTE#*K03000 I; PowerWise: Y; CompType: Interface IC; DatasheetVersion: Jul-2009; PackageVersion: revB, May-2009; PackageReference: SQA48A; PackageDescription: LLP, Plastic, Quad, 7 x 7 x 0.8mm Body, 48 Lead, 0.5mm Pitch, No Pullback; RoHS: Y; PinCount: 48; High-Reliability: Y; Code_JEDEC: MO-220-WKKD-2; ComponentLink1Description: Manufacturer URL; ComponentLink1URL: http://www.national.com/; ComponentLink2Description: LMK03000 Datasheet; ComponentLink2URL: http://www.national.com/ds/LM/LMK03000.pdf; ComponentLink3Description: LMK03000 Web Page; ComponentLink3URL: http://www.national.com/pf/LM/LMK03000.html; ComponentLink4Description: SQA48A Package Page; ComponentLink4URL: http://www.national.com/packaging/folders/sqa48a.html
footprint SQA48A (QFN, 48-Leads, Body 7x7mm, Pitch 0.5mm, Thermal Pad 5.2x5.2mm, NSC Recommended)
pins: 1 GND (power), 2 FOUT (out), 3 VCC1 (power), 4 CLKuWIRE (in), 5 DATAuWIRE (in), 6 LEuWIRE (in), 7 NC, 8 VCC2 (power), 9 LDOBYP1, 10 LDOBYP2, 11 GOE (in), 12 LD (out), 13 VCC3 (power), 14 CLKOUT0 (out), 15 ~{CLKOUT0} (out), 16 VCC4 (power), 17 CLKOUT1 (out), 18 ~{CLKOUT1} (out), 19 VCC5 (power), 20 CLKOUT2 (out), 21 ~{CLKOUT2} (out), 22 VCC6 (power), 23 CLKOUT3 (out), 24 ~{CLKOUT3} (out), 25 GND (power), 26 VCC7 (power), 27 ~{SYNC} (in), 28 OSCIN (in), 29 ~{OSCIN} (in), 30 VCC8 (power), 31 VCC9 (power), 32 CPOUT (out), 33 VCC10 (power), 34 NC, 35 NC, 36 BIAS (in), 37 VCC11 (power), 38 CLKOUT4 (out), 39 ~{CLKOUT4} (out), 40 VCC12 (power), 41 CLKOUT5 (out), 42 ~{CLKOUT5} (out), 43 VCC13 (power), 44 CLKOUT6 (out), 45 ~{CLKOUT6} (out), 46 VCC14 (power), 47 CLKOUT7 (out), 48 ~{CLKOUT7} (out), 49 DAP (power)

## LMK03001CISQ
designator U?
Precision Clock Conditioner with Integrated VCO, 48-pin LLP; PartNumber: LMK03001CISQ; Manufacturer: National Semiconductor; PackageTopMarking: NS*UZXYTT*K03001CI; PowerWise: Y; CompType: Interface IC; DatasheetVersion: Jul-2009; PackageVersion: revB, May-2009; PackageReference: SQA48A; PackageDescription: LLP, Plastic, Quad, 7 x 7 x 0.8mm Body, 48 Lead, 0.5mm Pitch, No Pullback; RoHS: Y; PinCount: 48; High-Reliability: Y; Code_JEDEC: MO-220-WKKD-2; ComponentLink1Description: Manufacturer URL; ComponentLink1URL: http://www.national.com/; ComponentLink2Description: LMK03001C Datasheet; ComponentLink2URL: http://www.national.com/ds/LM/LMK03000.pdf; ComponentLink3Description: LMK03001C Web Page; ComponentLink3URL: http://www.national.com/pf/LM/LMK03001C.html; ComponentLink4Description: SQA48A Package Page; ComponentLink4URL: http://www.national.com/packaging/folders/sqa48a.html
footprint SQA48A (QFN, 48-Leads, Body 7x7mm, Pitch 0.5mm, Thermal Pad 5.2x5.2mm, NSC Recommended)
pins: 1 GND (power), 2 FOUT (out), 3 VCC1 (power), 4 CLKuWIRE (in), 5 DATAuWIRE (in), 6 LEuWIRE (in), 7 NC, 8 VCC2 (power), 9 LDOBYP1, 10 LDOBYP2, 11 GOE (in), 12 LD (out), 13 VCC3 (power), 14 CLKOUT0 (out), 15 ~{CLKOUT0} (out), 16 VCC4 (power), 17 CLKOUT1 (out), 18 ~{CLKOUT1} (out), 19 VCC5 (power), 20 CLKOUT2 (out), 21 ~{CLKOUT2} (out), 22 VCC6 (power), 23 CLKOUT3 (out), 24 ~{CLKOUT3} (out), 25 GND (power), 26 VCC7 (power), 27 ~{SYNC} (in), 28 OSCIN (in), 29 ~{OSCIN} (in), 30 VCC8 (power), 31 VCC9 (power), 32 CPOUT (out), 33 VCC10 (power), 34 NC, 35 NC, 36 BIAS (in), 37 VCC11 (power), 38 CLKOUT4 (out), 39 ~{CLKOUT4} (out), 40 VCC12 (power), 41 CLKOUT5 (out), 42 ~{CLKOUT5} (out), 43 VCC13 (power), 44 CLKOUT6 (out), 45 ~{CLKOUT6} (out), 46 VCC14 (power), 47 CLKOUT7 (out), 48 ~{CLKOUT7} (out), 49 DAP (power)

## LMK03001CISQ/NOPB
designator U?
Precision Clock Conditioner with Integrated VCO, 48-pin LLP, Pb-Free; PartNumber: LMK03001CISQ/NOPB; Manufacturer: National Semiconductor; PackageTopMarking: NS*UZXYTTE#*K03001CI; PowerWise: Y; CompType: Interface IC; DatasheetVersion: Jul-2009; PackageVersion: revB, May-2009; PackageReference: SQA48A; PackageDescription: LLP, Plastic, Quad, 7 x 7 x 0.8mm Body, 48 Lead, 0.5mm Pitch, No Pullback; RoHS: Y; PinCount: 48; High-Reliability: Y; Code_JEDEC: MO-220-WKKD-2; ComponentLink1Description: Manufacturer URL; ComponentLink1URL: http://www.national.com/; ComponentLink2Description: LMK03001 Datasheet; ComponentLink2URL: http://www.national.com/ds/LM/LMK03001.pdf; ComponentLink3Description: LMK03001 Web Page; ComponentLink3URL: http://www.national.com/pf/LM/LMK03001.html; ComponentLink4Description: SQA48A Package Page; ComponentLink4URL: http://www.national.com/packaging/folders/sqa48a.html
footprint SQA48A (QFN, 48-Leads, Body 7x7mm, Pitch 0.5mm, Thermal Pad 5.2x5.2mm, NSC Recommended)
pins: 1 GND (power), 2 FOUT (out), 3 VCC1 (power), 4 CLKuWIRE (in), 5 DATAuWIRE (in), 6 LEuWIRE (in), 7 NC, 8 VCC2 (power), 9 LDOBYP1, 10 LDOBYP2, 11 GOE (in), 12 LD (out), 13 VCC3 (power), 14 CLKOUT0 (out), 15 ~{CLKOUT0} (out), 16 VCC4 (power), 17 CLKOUT1 (out), 18 ~{CLKOUT1} (out), 19 VCC5 (power), 20 CLKOUT2 (out), 21 ~{CLKOUT2} (out), 22 VCC6 (power), 23 CLKOUT3 (out), 24 ~{CLKOUT3} (out), 25 GND (power), 26 VCC7 (power), 27 ~{SYNC} (in), 28 OSCIN (in), 29 ~{OSCIN} (in), 30 VCC8 (power), 31 VCC9 (power), 32 CPOUT (out), 33 VCC10 (power), 34 NC, 35 NC, 36 BIAS (in), 37 VCC11 (power), 38 CLKOUT4 (out), 39 ~{CLKOUT4} (out), 40 VCC12 (power), 41 CLKOUT5 (out), 42 ~{CLKOUT5} (out), 43 VCC13 (power), 44 CLKOUT6 (out), 45 ~{CLKOUT6} (out), 46 VCC14 (power), 47 CLKOUT7 (out), 48 ~{CLKOUT7} (out), 49 DAP (power)

## LMK03001CISQX/NOPB
designator U?
Precision Clock Conditioner with Integrated VCO, 48-pin LLP, Pb-Free; PartNumber: LMK03001CISQX/NOPB; Manufacturer: National Semiconductor; PackageTopMarking: NS*UZXYTTE#*K03001CI; PowerWise: Y; CompType: Interface IC; DatasheetVersion: Jul-2009; PackageVersion: revB, May-2009; PackageReference: SQA48A; PackageDescription: LLP, Plastic, Quad, 7 x 7 x 0.8mm Body, 48 Lead, 0.5mm Pitch, No Pullback; RoHS: Y; PinCount: 48; High-Reliability: Y; Code_JEDEC: MO-220-WKKD-2; ComponentLink1Description: Manufacturer URL; ComponentLink1URL: http://www.national.com/; ComponentLink2Description: LMK03001 Datasheet; ComponentLink2URL: http://www.national.com/ds/LM/LMK03001.pdf; ComponentLink3Description: LMK03001 Web Page; ComponentLink3URL: http://www.national.com/pf/LM/LMK03001.html; ComponentLink4Description: SQA48A Package Page; ComponentLink4URL: http://www.national.com/packaging/folders/sqa48a.html
footprint SQA48A (QFN, 48-Leads, Body 7x7mm, Pitch 0.5mm, Thermal Pad 5.2x5.2mm, NSC Recommended)
pins: 1 GND (power), 2 FOUT (out), 3 VCC1 (power), 4 CLKuWIRE (in), 5 DATAuWIRE (in), 6 LEuWIRE (in), 7 NC, 8 VCC2 (power), 9 LDOBYP1, 10 LDOBYP2, 11 GOE (in), 12 LD (out), 13 VCC3 (power), 14 CLKOUT0 (out), 15 ~{CLKOUT0} (out), 16 VCC4 (power), 17 CLKOUT1 (out), 18 ~{CLKOUT1} (out), 19 VCC5 (power), 20 CLKOUT2 (out), 21 ~{CLKOUT2} (out), 22 VCC6 (power), 23 CLKOUT3 (out), 24 ~{CLKOUT3} (out), 25 GND (power), 26 VCC7 (power), 27 ~{SYNC} (in), 28 OSCIN (in), 29 ~{OSCIN} (in), 30 VCC8 (power), 31 VCC9 (power), 32 CPOUT (out), 33 VCC10 (power), 34 NC, 35 NC, 36 BIAS (in), 37 VCC11 (power), 38 CLKOUT4 (out), 39 ~{CLKOUT4} (out), 40 VCC12 (power), 41 CLKOUT5 (out), 42 ~{CLKOUT5} (out), 43 VCC13 (power), 44 CLKOUT6 (out), 45 ~{CLKOUT6} (out), 46 VCC14 (power), 47 CLKOUT7 (out), 48 ~{CLKOUT7} (out), 49 DAP (power)

## LMK03001DISQ
designator U?
Precision Clock Conditioner with Integrated VCO, 48-pin LLP; PartNumber: LMK03001DISQ; Manufacturer: National Semiconductor; PackageTopMarking: NS*UZXYTT*K03001DI; PowerWise: N; CompType: Interface IC; High-Reliability: Y; DatasheetVersion: Jul-2009; PackageVersion: revB, May-2009; PackageReference: SQA48A; PackageDescription: LLP, Plastic, Quad, 7 x 7 x 0.8mm Body, 48 Lead, 0.5mm Pitch, No Pullback; RoHS: Y; PinCount: 48; Code_JEDEC: MO-220-WKKD-2; ComponentLink1Description: Manufacturer URL; ComponentLink1URL: http://www.national.com/; ComponentLink2Description: LMK03001 Datasheet; ComponentLink2URL: http://www.national.com/ds/LM/LMK03000.pdf; ComponentLink3Description: LMK03001 Web Page; ComponentLink3URL: http://www.national.com/pf/LM/LMK03001.html; ComponentLink4Description: SQA48A Package Page; ComponentLink4URL: http://www.national.com/packaging/folders/sqa48a.html
footprint SQA48A (QFN, 48-Leads, Body 7x7mm, Pitch 0.5mm, Thermal Pad 5.2x5.2mm, NSC Recommended)
pins: 1 GND (power), 2 FOUT (out), 3 VCC1 (power), 4 CLKuWIRE (in), 5 DATAuWIRE (in), 6 LEuWIRE (in), 7 NC, 8 VCC2 (power), 9 LDOBYP1, 10 LDOBYP2, 11 GOE (in), 12 LD (out), 13 VCC3 (power), 14 CLKOUT0 (out), 15 ~{CLKOUT0} (out), 16 VCC4 (power), 17 CLKOUT1 (out), 18 ~{CLKOUT1} (out), 19 VCC5 (power), 20 CLKOUT2 (out), 21 ~{CLKOUT2} (out), 22 VCC6 (power), 23 CLKOUT3 (out), 24 ~{CLKOUT3} (out), 25 GND (power), 26 VCC7 (power), 27 ~{SYNC} (in), 28 OSCIN (in), 29 ~{OSCIN} (in), 30 VCC8 (power), 31 VCC9 (power), 32 CPOUT (out), 33 VCC10 (power), 34 NC, 35 NC, 36 BIAS (in), 37 VCC11 (power), 38 CLKOUT4 (out), 39 ~{CLKOUT4} (out), 40 VCC12 (power), 41 CLKOUT5 (out), 42 ~{CLKOUT5} (out), 43 VCC13 (power), 44 CLKOUT6 (out), 45 ~{CLKOUT6} (out), 46 VCC14 (power), 47 CLKOUT7 (out), 48 ~{CLKOUT7} (out), 49 DAP (power)

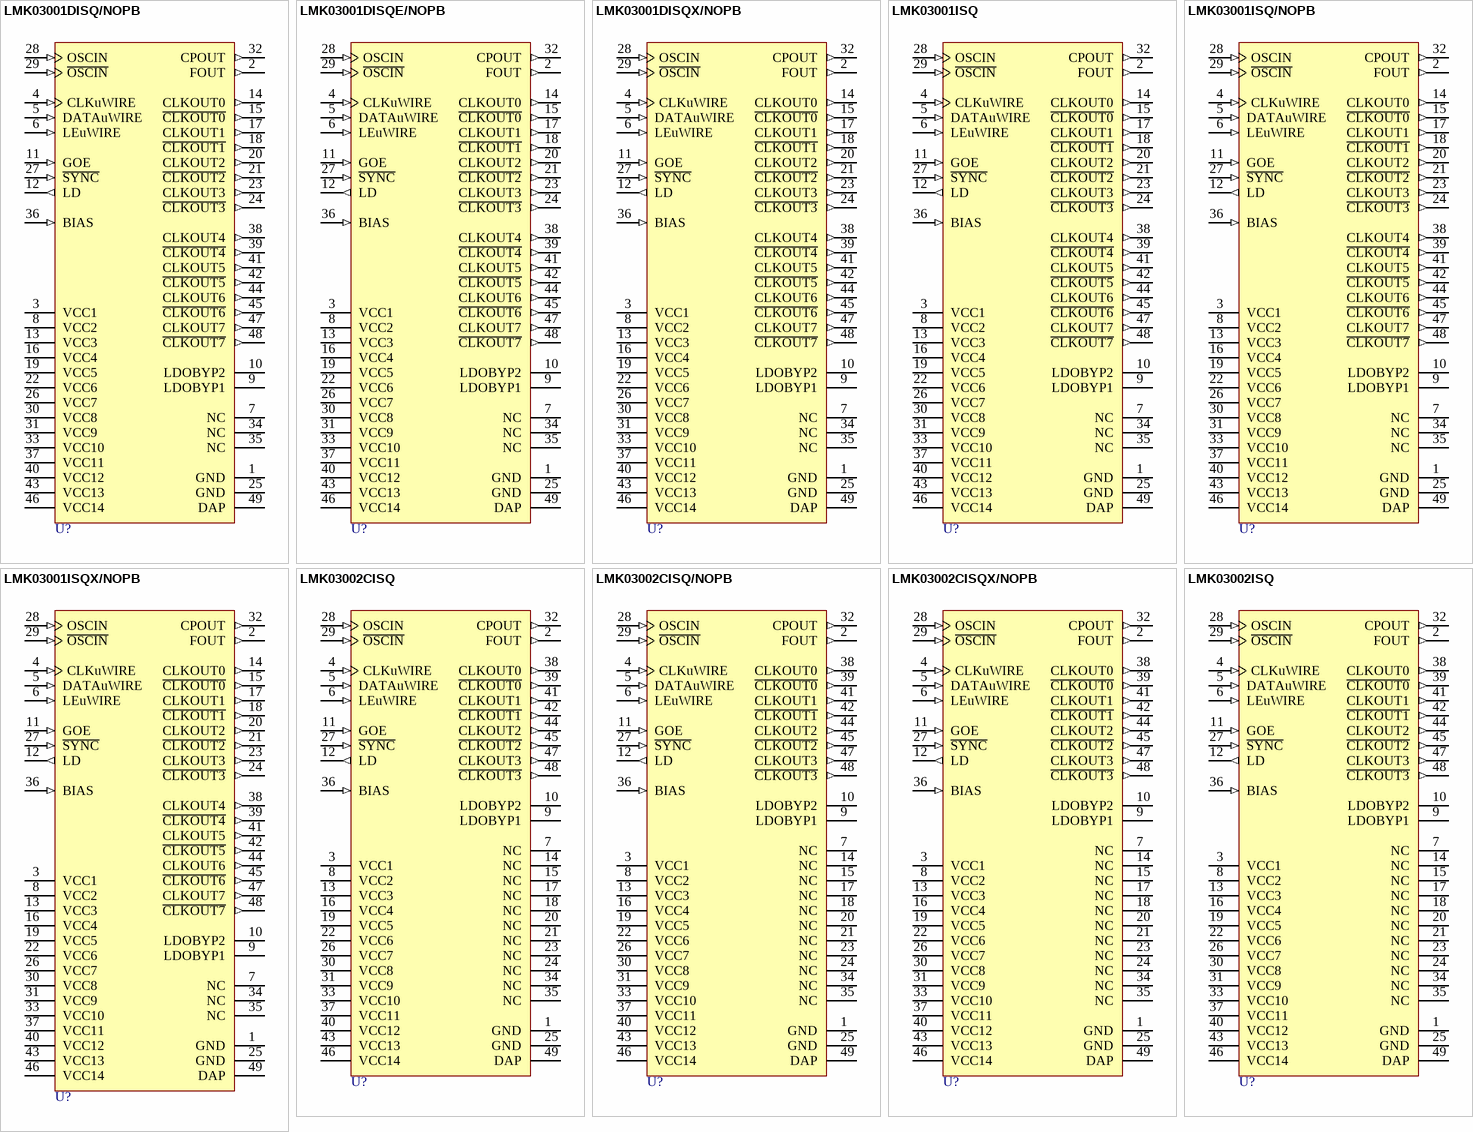
[diagram p95: symbols LMK03001DISQ/NOPB to LMK03002ISQ]

## LMK03001DISQ/NOPB
designator U?
Precision Clock Conditioner with Integrated VCO, 48-pin LLP, Pb-Free; PartNumber: LMK03001DISQ/NOPB; Manufacturer: National Semiconductor; PackageTopMarking: NS*UZXYTTE#*K03001DI; PowerWise: N; CompType: Interface IC; High-Reliability: Y; DatasheetVersion: Jul-2009; PackageVersion: revB, May-2009; PackageReference: SQA48A; PackageDescription: LLP, Plastic, Quad, 7 x 7 x 0.8mm Body, 48 Lead, 0.5mm Pitch, No Pullback; RoHS: Y; PinCount: 48; Code_JEDEC: MO-220-WKKD-2; ComponentLink1Description: Manufacturer URL; ComponentLink1URL: http://www.national.com/; ComponentLink2Description: LMK03001 Datasheet; ComponentLink2URL: http://www.national.com/ds/LM/LMK03001.pdf; ComponentLink3Description: LMK03001 Web Page; ComponentLink3URL: http://www.national.com/pf/LM/LMK03001.html; ComponentLink4Description: SQA48A Package Page; ComponentLink4URL: http://www.national.com/packaging/folders/sqa48a.html
footprint SQA48A (QFN, 48-Leads, Body 7x7mm, Pitch 0.5mm, Thermal Pad 5.2x5.2mm, NSC Recommended)
pins: 1 GND (power), 2 FOUT (out), 3 VCC1 (power), 4 CLKuWIRE (in), 5 DATAuWIRE (in), 6 LEuWIRE (in), 7 NC, 8 VCC2 (power), 9 LDOBYP1, 10 LDOBYP2, 11 GOE (in), 12 LD (out), 13 VCC3 (power), 14 CLKOUT0 (out), 15 ~{CLKOUT0} (out), 16 VCC4 (power), 17 CLKOUT1 (out), 18 ~{CLKOUT1} (out), 19 VCC5 (power), 20 CLKOUT2 (out), 21 ~{CLKOUT2} (out), 22 VCC6 (power), 23 CLKOUT3 (out), 24 ~{CLKOUT3} (out), 25 GND (power), 26 VCC7 (power), 27 ~{SYNC} (in), 28 OSCIN (in), 29 ~{OSCIN} (in), 30 VCC8 (power), 31 VCC9 (power), 32 CPOUT (out), 33 VCC10 (power), 34 NC, 35 NC, 36 BIAS (in), 37 VCC11 (power), 38 CLKOUT4 (out), 39 ~{CLKOUT4} (out), 40 VCC12 (power), 41 CLKOUT5 (out), 42 ~{CLKOUT5} (out), 43 VCC13 (power), 44 CLKOUT6 (out), 45 ~{CLKOUT6} (out), 46 VCC14 (power), 47 CLKOUT7 (out), 48 ~{CLKOUT7} (out), 49 DAP (power)

## LMK03001DISQE/NOPB
designator U?
Precision Clock Conditioner with Integrated VCO, 48-pin LLP, Pb-Free; PartNumber: LMK03001DISQE/NOPB; Manufacturer: National Semiconductor; PackageTopMarking: NS*UZXYTTE#*K03001DI; PowerWise: N; CompType: Interface IC; High-Reliability: Y; DatasheetVersion: Jul-2009; PackageVersion: revB, May-2009; PackageReference: SQA48A; PackageDescription: LLP, Plastic, Quad, 7 x 7 x 0.8mm Body, 48 Lead, 0.5mm Pitch, No Pullback; RoHS: Y; PinCount: 48; Code_JEDEC: MO-220-WKKD-2; ComponentLink1Description: Manufacturer URL; ComponentLink1URL: http://www.national.com/; ComponentLink2Description: LMK03001 Datasheet; ComponentLink2URL: http://www.national.com/ds/LM/LMK03001.pdf; ComponentLink3Description: LMK03001 Web Page; ComponentLink3URL: http://www.national.com/pf/LM/LMK03001.html; ComponentLink4Description: SQA48A Package Page; ComponentLink4URL: http://www.national.com/packaging/folders/sqa48a.html
footprint SQA48A (QFN, 48-Leads, Body 7x7mm, Pitch 0.5mm, Thermal Pad 5.2x5.2mm, NSC Recommended)
pins: 1 GND (power), 2 FOUT (out), 3 VCC1 (power), 4 CLKuWIRE (in), 5 DATAuWIRE (in), 6 LEuWIRE (in), 7 NC, 8 VCC2 (power), 9 LDOBYP1, 10 LDOBYP2, 11 GOE (in), 12 LD (out), 13 VCC3 (power), 14 CLKOUT0 (out), 15 ~{CLKOUT0} (out), 16 VCC4 (power), 17 CLKOUT1 (out), 18 ~{CLKOUT1} (out), 19 VCC5 (power), 20 CLKOUT2 (out), 21 ~{CLKOUT2} (out), 22 VCC6 (power), 23 CLKOUT3 (out), 24 ~{CLKOUT3} (out), 25 GND (power), 26 VCC7 (power), 27 ~{SYNC} (in), 28 OSCIN (in), 29 ~{OSCIN} (in), 30 VCC8 (power), 31 VCC9 (power), 32 CPOUT (out), 33 VCC10 (power), 34 NC, 35 NC, 36 BIAS (in), 37 VCC11 (power), 38 CLKOUT4 (out), 39 ~{CLKOUT4} (out), 40 VCC12 (power), 41 CLKOUT5 (out), 42 ~{CLKOUT5} (out), 43 VCC13 (power), 44 CLKOUT6 (out), 45 ~{CLKOUT6} (out), 46 VCC14 (power), 47 CLKOUT7 (out), 48 ~{CLKOUT7} (out), 49 DAP (power)

## LMK03001DISQX/NOPB
designator U?
Precision Clock Conditioner with Integrated VCO, 48-pin LLP, Pb-Free; PartNumber: LMK03001DISQX/NOPB; Manufacturer: National Semiconductor; PackageTopMarking: NS*UZXYTTE#*K03001DI; PowerWise: N; CompType: Interface IC; High-Reliability: Y; DatasheetVersion: Jul-2009; PackageVersion: revB, May-2009; PackageReference: SQA48A; PackageDescription: LLP, Plastic, Quad, 7 x 7 x 0.8mm Body, 48 Lead, 0.5mm Pitch, No Pullback; RoHS: Y; PinCount: 48; Code_JEDEC: MO-220-WKKD-2; ComponentLink1Description: Manufacturer URL; ComponentLink1URL: http://www.national.com/; ComponentLink2Description: LMK03001 Datasheet; ComponentLink2URL: http://www.national.com/ds/LM/LMK03001.pdf; ComponentLink3Description: LMK03001 Web Page; ComponentLink3URL: http://www.national.com/pf/LM/LMK03001.html; ComponentLink4Description: SQA48A Package Page; ComponentLink4URL: http://www.national.com/packaging/folders/sqa48a.html
footprint SQA48A (QFN, 48-Leads, Body 7x7mm, Pitch 0.5mm, Thermal Pad 5.2x5.2mm, NSC Recommended)
pins: 1 GND (power), 2 FOUT (out), 3 VCC1 (power), 4 CLKuWIRE (in), 5 DATAuWIRE (in), 6 LEuWIRE (in), 7 NC, 8 VCC2 (power), 9 LDOBYP1, 10 LDOBYP2, 11 GOE (in), 12 LD (out), 13 VCC3 (power), 14 CLKOUT0 (out), 15 ~{CLKOUT0} (out), 16 VCC4 (power), 17 CLKOUT1 (out), 18 ~{CLKOUT1} (out), 19 VCC5 (power), 20 CLKOUT2 (out), 21 ~{CLKOUT2} (out), 22 VCC6 (power), 23 CLKOUT3 (out), 24 ~{CLKOUT3} (out), 25 GND (power), 26 VCC7 (power), 27 ~{SYNC} (in), 28 OSCIN (in), 29 ~{OSCIN} (in), 30 VCC8 (power), 31 VCC9 (power), 32 CPOUT (out), 33 VCC10 (power), 34 NC, 35 NC, 36 BIAS (in), 37 VCC11 (power), 38 CLKOUT4 (out), 39 ~{CLKOUT4} (out), 40 VCC12 (power), 41 CLKOUT5 (out), 42 ~{CLKOUT5} (out), 43 VCC13 (power), 44 CLKOUT6 (out), 45 ~{CLKOUT6} (out), 46 VCC14 (power), 47 CLKOUT7 (out), 48 ~{CLKOUT7} (out), 49 DAP (power)

## LMK03001ISQ
designator U?
Precision Clock Conditioner with Integrated VCO, 48-pin LLP; PartNumber: LMK03001ISQ; Manufacturer: National Semiconductor; PackageTopMarking: NS*UZXYTT*K03001 I; PowerWise: Y; CompType: Interface IC; DatasheetVersion: Jul-2009; PackageVersion: revB, May-2009; PackageReference: SQA48A; PackageDescription: LLP, Plastic, Quad, 7 x 7 x 0.8mm Body, 48 Lead, 0.5mm Pitch, No Pullback; RoHS: Y; PinCount: 48; High-Reliability: Y; Code_JEDEC: MO-220-WKKD-2; ComponentLink1Description: Manufacturer URL; ComponentLink1URL: http://www.national.com/; ComponentLink2Description: LMK03001 Datasheet; ComponentLink2URL: http://www.national.com/ds/LM/LMK03000.pdf; ComponentLink3Description: LMK03001 Web Page; ComponentLink3URL: http://www.national.com/pf/LM/LMK03001.html; ComponentLink4Description: SQA48A Package Page; ComponentLink4URL: http://www.national.com/packaging/folders/sqa48a.html
footprint SQA48A (QFN, 48-Leads, Body 7x7mm, Pitch 0.5mm, Thermal Pad 5.2x5.2mm, NSC Recommended)
pins: 1 GND (power), 2 FOUT (out), 3 VCC1 (power), 4 CLKuWIRE (in), 5 DATAuWIRE (in), 6 LEuWIRE (in), 7 NC, 8 VCC2 (power), 9 LDOBYP1, 10 LDOBYP2, 11 GOE (in), 12 LD (out), 13 VCC3 (power), 14 CLKOUT0 (out), 15 ~{CLKOUT0} (out), 16 VCC4 (power), 17 CLKOUT1 (out), 18 ~{CLKOUT1} (out), 19 VCC5 (power), 20 CLKOUT2 (out), 21 ~{CLKOUT2} (out), 22 VCC6 (power), 23 CLKOUT3 (out), 24 ~{CLKOUT3} (out), 25 GND (power), 26 VCC7 (power), 27 ~{SYNC} (in), 28 OSCIN (in), 29 ~{OSCIN} (in), 30 VCC8 (power), 31 VCC9 (power), 32 CPOUT (out), 33 VCC10 (power), 34 NC, 35 NC, 36 BIAS (in), 37 VCC11 (power), 38 CLKOUT4 (out), 39 ~{CLKOUT4} (out), 40 VCC12 (power), 41 CLKOUT5 (out), 42 ~{CLKOUT5} (out), 43 VCC13 (power), 44 CLKOUT6 (out), 45 ~{CLKOUT6} (out), 46 VCC14 (power), 47 CLKOUT7 (out), 48 ~{CLKOUT7} (out), 49 DAP (power)

## LMK03001ISQ/NOPB
designator U?
Precision Clock Conditioner with Integrated VCO, 48-pin LLP, Pb-Free; PartNumber: LMK03001ISQ/NOPB; Manufacturer: National Semiconductor; PackageTopMarking: NS*UZXYTTE#*K03001 I; PowerWise: Y; CompType: Interface IC; DatasheetVersion: Jul-2009; PackageVersion: revB, May-2009; PackageReference: SQA48A; PackageDescription: LLP, Plastic, Quad, 7 x 7 x 0.8mm Body, 48 Lead, 0.5mm Pitch, No Pullback; RoHS: Y; PinCount: 48; High-Reliability: Y; Code_JEDEC: MO-220-WKKD-2; ComponentLink1Description: Manufacturer URL; ComponentLink1URL: http://www.national.com/; ComponentLink2Description: LMK03001 Datasheet; ComponentLink2URL: http://www.national.com/ds/LM/LMK03001.pdf; ComponentLink3Description: LMK03001 Web Page; ComponentLink3URL: http://www.national.com/pf/LM/LMK03001.html; ComponentLink4Description: SQA48A Package Page; ComponentLink4URL: http://www.national.com/packaging/folders/sqa48a.html
footprint SQA48A (QFN, 48-Leads, Body 7x7mm, Pitch 0.5mm, Thermal Pad 5.2x5.2mm, NSC Recommended)
pins: 1 GND (power), 2 FOUT (out), 3 VCC1 (power), 4 CLKuWIRE (in), 5 DATAuWIRE (in), 6 LEuWIRE (in), 7 NC, 8 VCC2 (power), 9 LDOBYP1, 10 LDOBYP2, 11 GOE (in), 12 LD (out), 13 VCC3 (power), 14 CLKOUT0 (out), 15 ~{CLKOUT0} (out), 16 VCC4 (power), 17 CLKOUT1 (out), 18 ~{CLKOUT1} (out), 19 VCC5 (power), 20 CLKOUT2 (out), 21 ~{CLKOUT2} (out), 22 VCC6 (power), 23 CLKOUT3 (out), 24 ~{CLKOUT3} (out), 25 GND (power), 26 VCC7 (power), 27 ~{SYNC} (in), 28 OSCIN (in), 29 ~{OSCIN} (in), 30 VCC8 (power), 31 VCC9 (power), 32 CPOUT (out), 33 VCC10 (power), 34 NC, 35 NC, 36 BIAS (in), 37 VCC11 (power), 38 CLKOUT4 (out), 39 ~{CLKOUT4} (out), 40 VCC12 (power), 41 CLKOUT5 (out), 42 ~{CLKOUT5} (out), 43 VCC13 (power), 44 CLKOUT6 (out), 45 ~{CLKOUT6} (out), 46 VCC14 (power), 47 CLKOUT7 (out), 48 ~{CLKOUT7} (out), 49 DAP (power)